# Altium schematic symbol library Schlib1.SchLib: 1 symbol
Pins are listed as number, name and electrical type; pins without a type are passive.

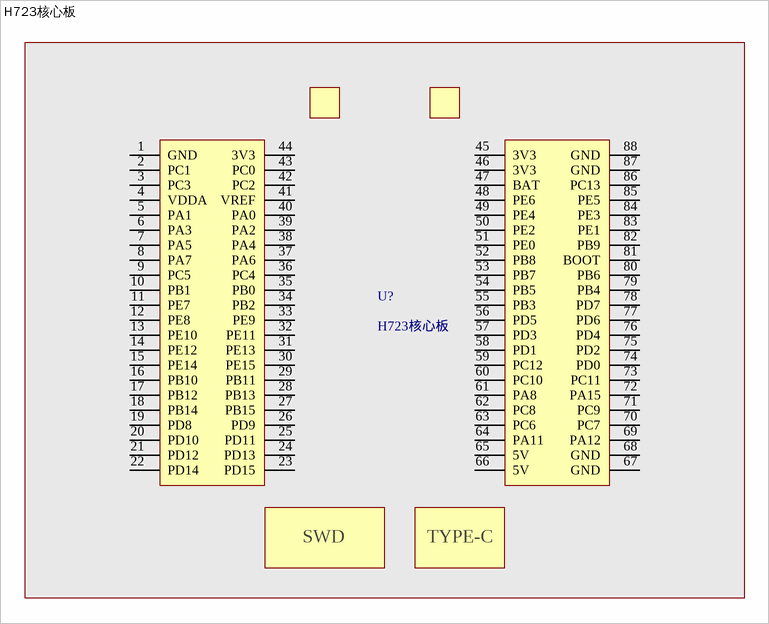
[diagram p0: symbol H723核心板]

## H723核心板
designator U?
footprint H723核心板
pins: 1 GND, 2 PC1, 3 PC3, 4 VDDA, 5 PA1, 6 PA3, 7 PA5, 8 PA7, 9 PC5, 10 PB1, 11 PE7, 12 PE8, 13 PE10, 14 PE12, 15 PE14, 16 PB10, 17 PB12, 18 PB14, 19 PD8, 20 PD10, 21 PD12, 22 PD14, 23 PD15, 24 PD13, 25 PD11, 26 PD9, 27 PB15, 28 PB13, 29 PB11, 30 PE15, 31 PE13, 32 PE11, 33 PE9, 34 PB2, 35 PB0, 36 PC4, 37 PA6, 38 PA4, 39 PA2, 40 PA0, 41 VREF, 42 PC2, 43 PC0, 44 3V3, 45 3V3, 46 3V3, 47 BAT, 48 PE6, 49 PE4, 50 PE2, 51 PE0, 52 PB8, 53 PB7, 54 PB5, 55 PB3, 56 PD5, 57 PD3, 58 PD1, 59 PC12, 60 PC10, 61 PA8, 62 PC8, 63 PC6, 64 PA11, 65 5V, 66 5V, 67 GND, 68 GND, 69 PA12, 70 PC7, 71 PC9, 72 PA15, 73 PC11, 74 PD0, 75 PD2, 76 PD4, 77 PD6, 78 PD7, 79 PB4, 80 PB6, 81 BOOT, 82 PB9, 83 PE1, 84 PE3, 85 PE5, 86 PC13, 87 GND, 88 GND
text: SWD; TYPE-C